# Altium footprint library J103.PcbLib: 1 footprints
Each footprint in its own frame and in the unit in brackets; x right, y up, seen from the top. Pads: shape width x height; smd on the part's side, far side on the other; paste and mask are expansions set on the pad; w line width, h text height; cw(c..) or ccw(c..) is an arc to the next point about the centre after c.
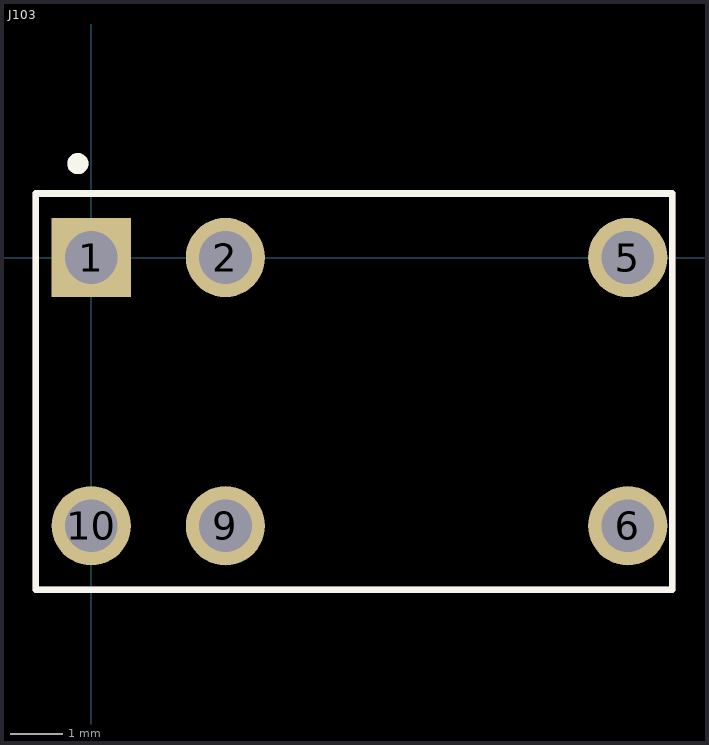
[diagram p0: the footprint, top view; thin cyan lines are the x and y axes]

## J103 [mm]
pads (6):
  rect 1.5x1.5 hole 1: 1(0,0)
  round 1.5 hole 1: 2(2.54,0) 5(10.16,0) 6(10.16,-5.08) 9(2.54,-5.08) 10(0,-5.08)
Top Overlay:
  circle w0.2: c-0.254,1.778 r0.1
  lines w0.127: -1.05,-6.29 -1.05,1.21 11,1.21 11,-6.29 -1.05,-6.29
Mechanical 13:
  circle w0.2: c-0.254,1.778 r0.1
  lines w0.127: -1.05,-6.29 -1.05,1.21 11,1.21 11,-6.29 -1.05,-6.29
Mechanical 15:
  lines w0.05: -1.05,-6.29 -1.05,1.21 11,1.21
  lines w0.1: -1.05,-6.29 11,-6.29 11,1.21
3D body: height 9.85, standoff 0, extent -1.016,-6.223 10.922,1.143